# Altium footprint library GlecerLib.PcbLib: 39 footprints (part 2 of 3)
Each footprint in its own frame and in the unit in brackets; x right, y up, seen from the top. Pads: shape width x height; smd on the part's side, far side on the other; paste and mask are expansions set on the pad; w line width, h text height; cw(c..) or ccw(c..) is an arc to the next point about the centre after c.
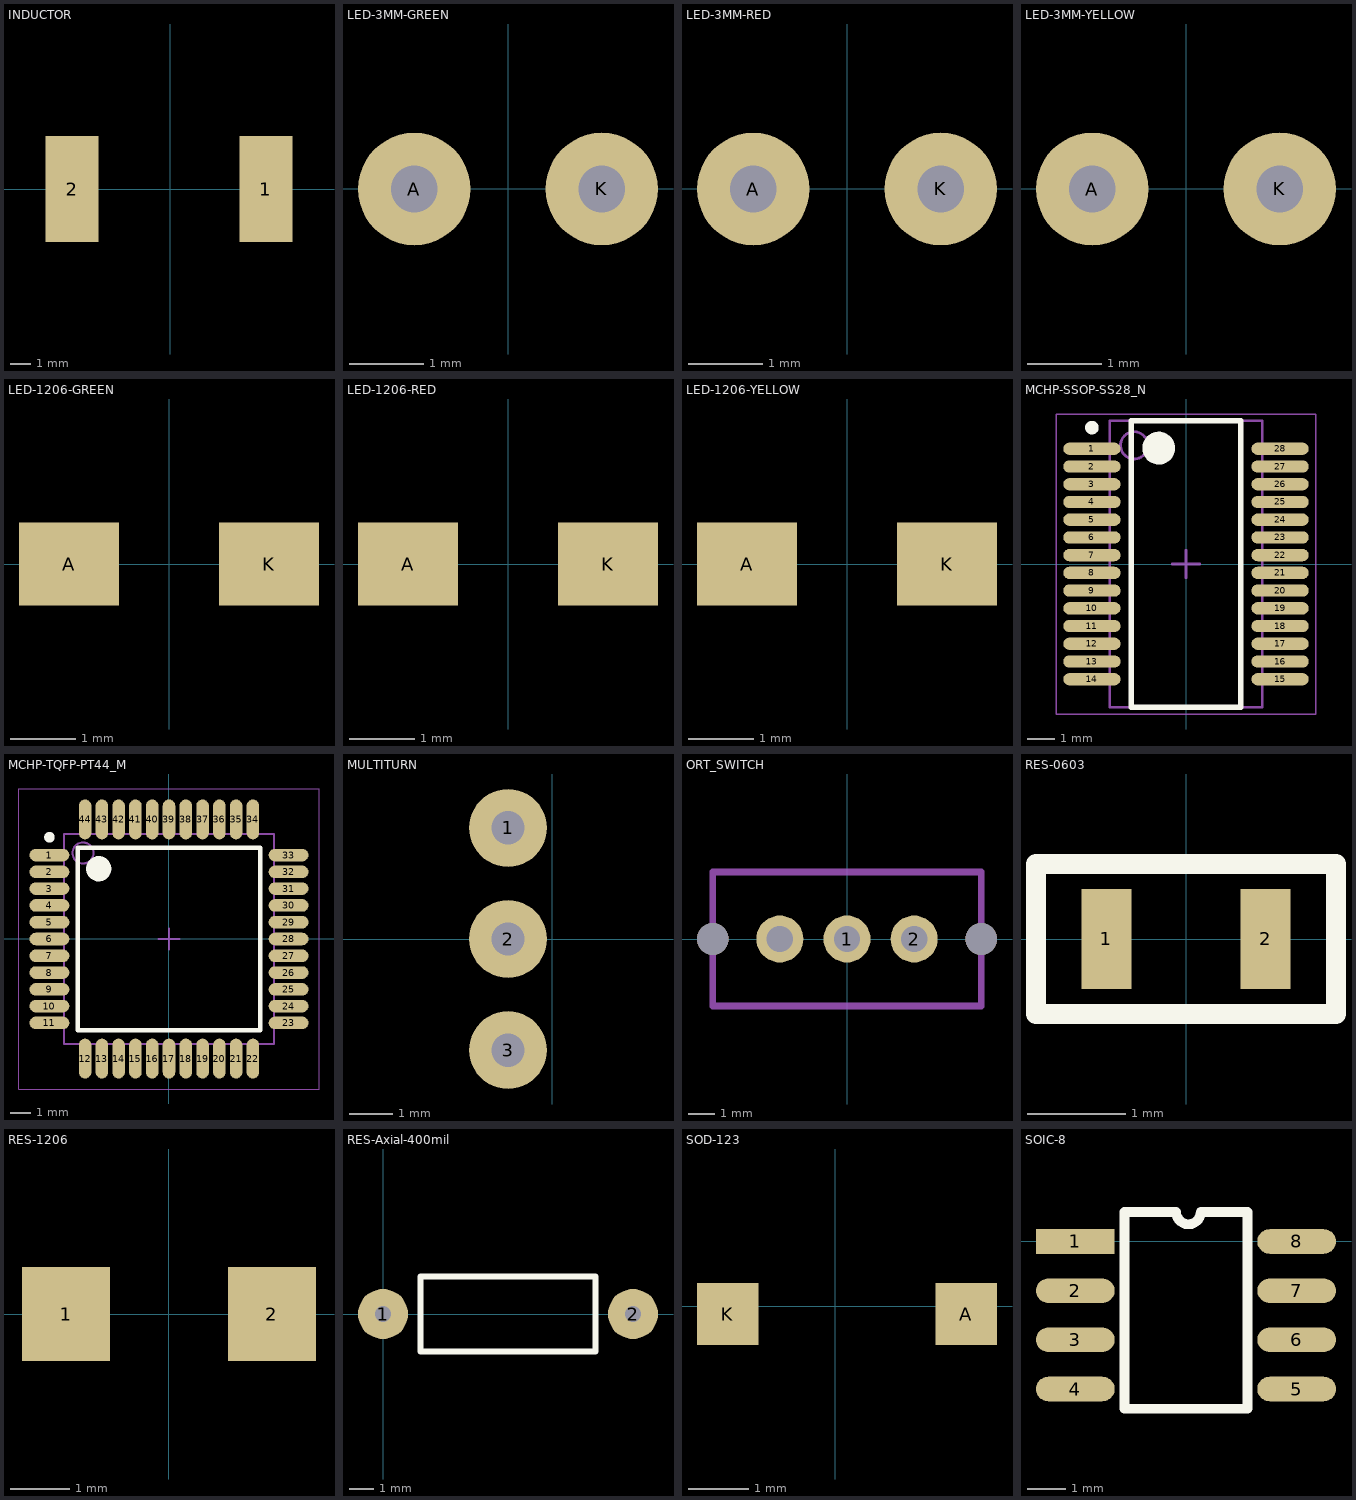
[diagram p1: the footprints below, top view; thin cyan lines are the x and y axes]

## INDUCTOR [mil]
pads (2):
  rect 100x200 smd: 1(180,0) 2(-185,0)
3D body "SRR1050A.stp": height 185, standoff -4, extent -201,-196.99 201,197

## LED-3MM-GREEN [mil]
pads (2):
  round 60 hole 25: A(-50,0) K(50,0)
3D body "SW3dPS-LEDd3G.STEP": height 217.04, standoff -97.93, extent -65.51,-65.13 64.41,64.79

## LED-3MM-RED [mil]
pads (2):
  round 60 hole 25: A(-50,0) K(50,0)
3D body "SW3dPS-LEDd3R.STEP": height 217.04, standoff -97.93, extent -65.51,-65.13 64.41,64.8

## LED-3MM-YELLOW [mil]
pads (2):
  round 60 hole 25: A(-50,0) K(50,0)
3D body "SW3dPS-LEDd3Y.STEP": height 217.04, standoff -97.93, extent -65.51,-65.13 64.41,64.8

## LED-1206-GREEN [mil]
pads (2):
  rect 60x50 smd: A(-60,0) K(60,0)
3D body "User Library-led_1206.step": height 43.31, standoff 0, extent -63.38,-31.49 63.39,31.5

## LED-1206-RED [mil]
pads (2):
  rect 60x50 smd: A(-60,0) K(60,0)
3D body "User Library-led_1206 (4).step": height 43.31, standoff 0, extent -63.38,-31.49 63.39,31.5

## LED-1206-YELLOW [mil]
pads (2):
  rect 60x50 smd: A(-60,0) K(60,0)
3D body "User Library-led_1206 (3).step": height 43.31, standoff 0, extent -63.38,-31.49 63.39,31.5

## MCHP-SSOP-SS28_N [mm] "SOP, 28-Leads, Body 10.2x5.3mm, Pitch 0.65mm, IPC Medium Density"
height 2
pads (28):
  oval 2.1x0.45 smd: 1(-3.45,4.225) 2(-3.45,3.575) 3(-3.45,2.925) 4(-3.45,2.275) 5(-3.45,1.625) 6(-3.45,0.975) 7(-3.45,0.325) 8(-3.45,-0.325) 9(-3.45,-0.975) 10(-3.45,-1.625) 11(-3.45,-2.275) 12(-3.45,-2.925) 13(-3.45,-3.575) 14(-3.45,-4.225) 15(3.45,-4.225) 16(3.45,-3.575) 17(3.45,-2.925) 18(3.45,-2.275) 19(3.45,-1.625) 20(3.45,-0.975) 21(3.45,-0.325) 22(3.45,0.325) 23(3.45,0.975) 24(3.45,1.625) 25(3.45,2.275) 26(3.45,2.925) 27(3.45,3.575) 28(3.45,4.225)
Top Overlay:
  circle w0.25: c-3.45,5 r0.125
  circle w0.6: c-1,4.25 r0.3
  lines w0.2: -2,-5.25 -2,5.25 2,5.25 2,-5.25 -2,-5.25
Mechanical 13:
  circle w0.1: c-1.9,4.35 r0.5
  lines w0.1: -2.8,-5.25 -2.8,5.25 2.8,5.25 2.8,-5.25 -2.8,-5.25
Mechanical 15:
  lines w0.05: -4.75,-5.5 -4.75,5.5 4.75,5.5 4.75,-5.5 -4.75,-5.5
  lines w0.1: -0.5,0 0.5,0 ; 0,-0.5 0,0.5
3D body: height 2, standoff 0.05, extent -2.8,-5.25 2.8,5.25

## MCHP-TQFP-PT44_M [mm] "QFN, 44-Leads, Body 10x10mm, Pitch 0.8mm, IPC Low Density"
height 1.2
pads (44):
  oval 1.9x0.6 smd: 1(-5.7,4) 2(-5.7,3.2) 3(-5.7,2.4) 4(-5.7,1.6) 5(-5.7,0.8) 6(-5.7,0) 7(-5.7,-0.8) 8(-5.7,-1.6) 9(-5.7,-2.4) 10(-5.7,-3.2) 11(-5.7,-4) 23(5.7,-4) 24(5.7,-3.2) 25(5.7,-2.4) 26(5.7,-1.6) 27(5.7,-0.8) 28(5.7,0) 29(5.7,0.8) 30(5.7,1.6) 31(5.7,2.4) 32(5.7,3.2) 33(5.7,4)
  oval 0.6x1.9 smd: 12(-4,-5.7) 13(-3.2,-5.7) 14(-2.4,-5.7) 15(-1.6,-5.7) 16(-0.8,-5.7) 17(0,-5.7) 18(0.8,-5.7) 19(1.6,-5.7) 20(2.4,-5.7) 21(3.2,-5.7) 22(4,-5.7) 34(4,5.7) 35(3.2,5.7) 36(2.4,5.7) 37(1.6,5.7) 38(0.8,5.7) 39(0,5.7) 40(-0.8,5.7) 41(-1.6,5.7) 42(-2.4,5.7) 43(-3.2,5.7) 44(-4,5.7)
Top Overlay:
  circle w0.6: c-3.35,3.35 r0.3
  circle w0.25: c-5.7,4.85 r0.125
  lines w0.2: -4.35,-4.35 4.35,-4.35 4.35,4.35 -4.35,4.35 -4.35,-4.35
Mechanical 13:
  circle w0.1: c-4.1,4.1 r0.5
  lines w0.1: -5,-5 5,-5 5,5 -5,5 -5,-5
Mechanical 15:
  lines w0.05: -7.15,-7.15 7.15,-7.15 7.15,7.15 -7.15,7.15 -7.15,-7.15
  lines w0.1: -0.5,0 0.5,0 ; 0,-0.5 0,0.5
3D body: height 1.2, standoff 0.05, extent -5,-5 5,5

## MULTITURN [mil]
pads (3):
  round 70 hole 30: 1(-40,100) 2(-40,0) 3(-40,-100)
3D body "User Library-3299W-1-103RLF (1).step": height 455, standoff -245, extent -114.99,-187.49 125,187.51

## ORT_SWITCH [mm]
pads (5):
  round 1.778 hole 1: 1(0,0) 2(2.54,0) ""(-2.54,0)
  round 1.2 hole 1.2 unplated: ""(-5.08,0) ""(5.08,0)
Mechanical 1:
  lines w0.254: -5.08,-2.54 5.08,-2.54 5.08,2.54 -5.08,2.54 -5.08,-2.54

## RES-0603 [mil]
pads (2):
  rect 20x40 smd: 1(-31.89,0) 2(31.89,0)
Top Overlay:
  lines w8: -60,-30 60,-30 60,30 -60,30 -60,-30
3D body "User Library-0603 SMD Resistor.step": height 11.89, standoff 0, extent -31.49,-15.74 31.5,15.75

## RES-1206 [mm]
pads (2):
  rect 1.5x1.6 smd: 1(-1.75,0) 2(1.75,0)
3D body "User Library-SMD RESISTOR-1.step": height 0.68, standoff 0.08, extent -1.6,-0.762 1.6,0.838

## RES-Axial-400mil [mil]
pads (2):
  round 80 hole 25: 1(0,0) 2(400,0)
Top Overlay:
  lines w10: 60,-60 340,-60 340,60 60,60 60,0 60,-60
3D body "SW3dPS-resistor - fixed.STEP": height 94, standoff -110, extent -12,-44 410,44

## SOD-123 [mil]
pads (2):
  rect 40x40 smd: A(85,-5) K(-70,-5)
3D body "User Library-SOD-123_DiodesInc.step": height 56.42, standoff -0.67, extent -70.79,-36.93 80.79,30

## SOIC-8 [mil]
pads (8):
  rect 80x25 smd: 1(215,0)
  oval 80x25 smd: 2(215,-50) 3(215,-100) 4(215,-150) 5(440,-150) 6(440,-100) 7(440,-50) 8(440,0)
Top Overlay:
  lines w10: 265,-170 265,30 317.5,30 ccw(c330,30) 342.5,30 390,30 390,-170 265,-170
3D body "User Library-SOIC-8-1.step": height 68.9, standoff 0, extent 211.9,-171.46 448.12,21.46